# EAGLE library part FTSH-105-01-L-DV-K (library con-samtec)
FTSH Pin Header
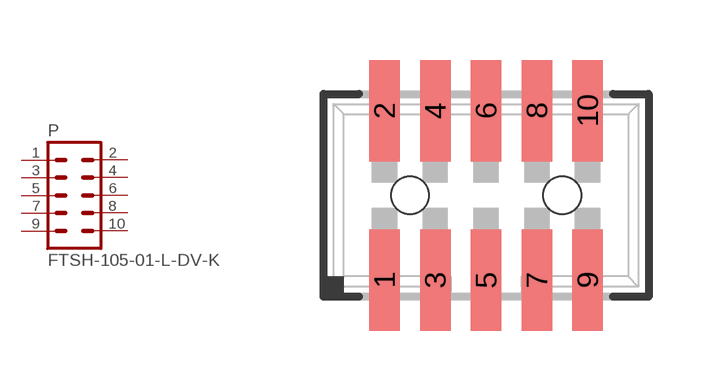
[diagram p7: symbol with the pads of FTSH-105-01-L-DV-K; footprint FTSH-105-01-L-DV-K]

Designator prefix P

## FTSH-105-01-L-DV-K  [FTSH-105-01-L-DV-K]
1  1  pas
2  2  pas
3  3  pas
4  4  pas
5  5  pas
6  6  pas
7  7  pas
8  8  pas
9  9  pas
10  10  pas

## Footprint FTSH-105-01-L-DV-K (pad centres in mm)
CONNECTOR HEADER Samtec FTSH-105-01-L-DV-K
smd 0.762 x 2.54: 1 -2.54,-2.121; 2 -2.54,2.121; 3 -1.27,-2.121; 4 -1.27,2.121; 5 0,-2.121; 6 0,2.121; 7 1.27,-2.121; 8 1.27,2.121; 9 2.54,-2.121; 10 2.54,2.121
hole 0.94 at -1.905,0
hole 0.94 at 1.905,0